# EAGLE library part MC516400 (library Custom)
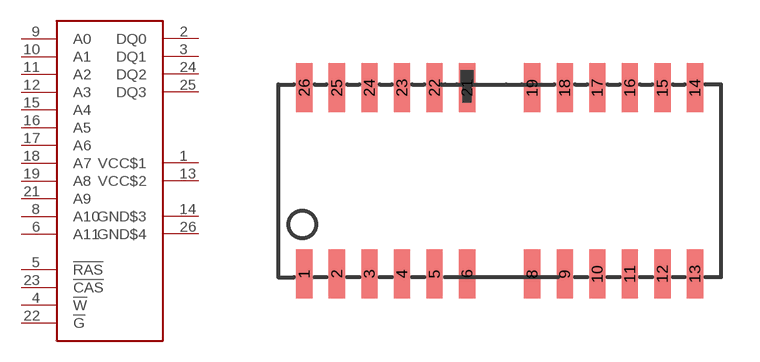
[diagram p38: symbol with the pads of SOJ26-20; footprint SOJ26-20]

Designator prefix -

## MC516400SOJ28-20  [SOJ26-20]
1  VCC$1  pwr
2  DQ0
3  DQ1
4  !W  in
5  !RAS  in
6  A11  in
8  A10  in
9  A0  in
10  A1  in
11  A2  in
12  A3  in
13  VCC$2  pwr
14  GND$3  pwr
15  A4  in
16  A5  in
17  A6  in
18  A7  in
19  A8  in
21  A9  in
22  !G  in
23  !CAS  in
24  DQ2
25  DQ3
26  GND$4  pwr

## Footprint SOJ26-20 (pad centres in mm)
Small Outline J-Bend
smd 0.635 x 1.905: 1 -7.62,-3.632; 2 -6.35,-3.632; 3 -5.08,-3.632; 4 -3.81,-3.632; 5 -2.54,-3.632; 6 -1.27,-3.632; 8 1.27,-3.632; 9 2.54,-3.632; 10 3.81,-3.632; 11 5.08,-3.632; 12 6.35,-3.632; 13 7.62,-3.632; 14 7.62,3.632; 15 6.35,3.632; 16 5.08,3.632; 17 3.81,3.632; 18 2.54,3.632; 19 1.27,3.632; 21 -1.27,3.632; 22 -2.54,3.632; 23 -3.81,3.632; 24 -5.08,3.632; 25 -6.35,3.632; 26 -7.62,3.632